# Altium footprint library mcu_PcbLib1.PcbLib: 10 footprints
Each footprint in its own frame and in the unit in brackets; x right, y up, seen from the top. Pads: shape width x height; smd on the part's side, far side on the other; paste and mask are expansions set on the pad; w line width, h text height; cw(c..) or ccw(c..) is an arc to the next point about the centre after c.
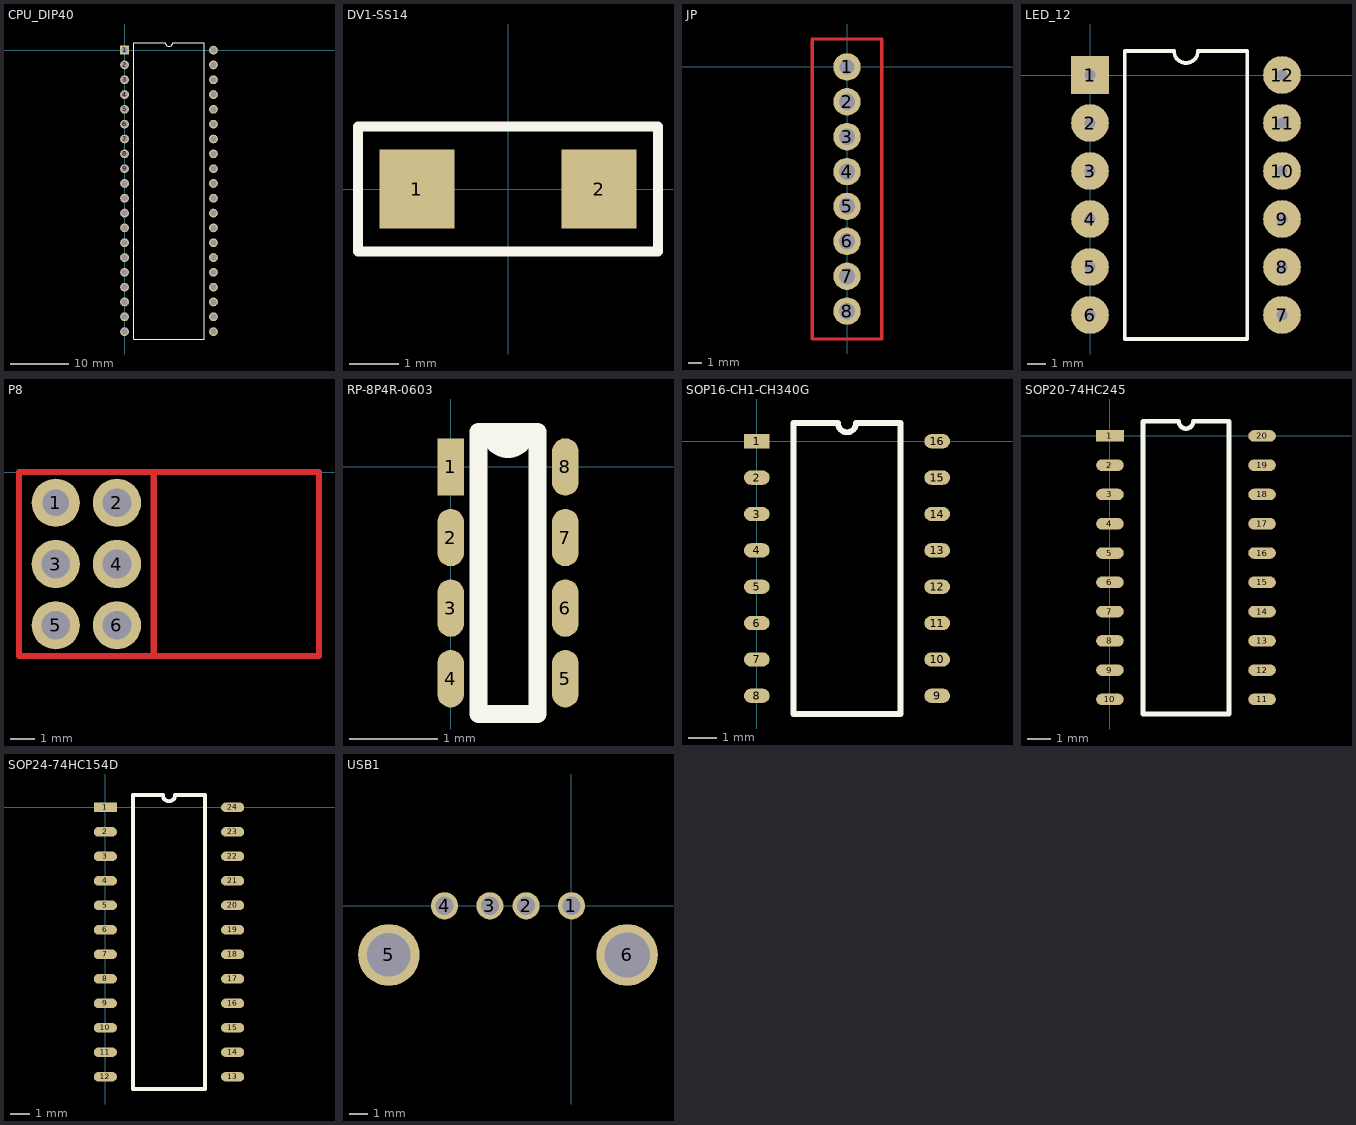
[diagram p0: the footprints below, top view; thin cyan lines are the x and y axes]

## CPU_DIP40 [mm]
pads (40):
  rect 1.5x1.5 hole 1: 1(0,0)
  round 1.5 hole 1: 2(0,-2.54) 3(0,-5.08) 4(0,-7.62) 5(0,-10.16) 6(0,-12.7) 7(0,-15.24) 8(0,-17.78) 9(0,-20.32) 10(0,-22.86) 11(0,-25.4) 12(0,-27.94) 13(0,-30.48) 14(0,-33.02) 15(0,-35.56) 16(0,-38.1) 17(0,-40.64) 18(0,-43.18) 19(0,-45.72) 20(0,-48.26) 21(15.24,-48.26) 22(15.24,-45.72) 23(15.24,-43.18) 24(15.24,-40.64) 25(15.24,-38.1) 26(15.24,-35.56) 27(15.24,-33.02) 28(15.24,-30.48) 29(15.24,-27.94) 30(15.24,-25.4) 31(15.24,-22.86) 32(15.24,-20.32) 33(15.24,-17.78) 34(15.24,-15.24) 35(15.24,-12.7) 36(15.24,-10.16) 37(15.24,-7.62) 38(15.24,-5.08) 39(15.24,-2.54) 40(15.24,0)
Top Overlay:
  lines w0.2: 1.585,-49.53 13.655,-49.53 13.655,1.27 8.255,1.27 cw(c7.62,1.27) 6.985,1.27 1.585,1.27 1.585,-49.53

## DV1-SS14 [mm]
pads (2):
  rect 1.52x1.6 smd: 1(-1.85,0) 2(1.85,0)
Top Overlay:
  lines w0.2: -3.048,-1.27 3.048,-1.27 3.048,1.27 -3.048,1.27 -3.048,0 -3.048,-1.27

## JP [mm]
pads (8):
  round 2 hole 1.1 square: 1(0,0)
  round 2 hole 1.2: 2(0,-2.54) 3(0,-5.08) 4(0,-7.62) 5(0,-10.16) 6(0,-12.7) 7(0,-15.24) 8(0,-17.78)
Top Layer:
  lines w0.254: -2.54,-19.812 2.54,-19.812 2.54,-19.558 2.54,2.032 -2.54,2.032 -2.54,-19.812

## LED_12 [mm]
pads (12):
  rect 2x2 hole 0.6: 1(0,0)
  round 2 hole 0.6: 2(0,-2.54) 3(0,-5.08) 4(0,-7.62) 5(0,-10.16) 6(0,-12.7) 7(10.16,-12.7) 8(10.16,-10.16) 9(10.16,-7.62) 10(10.16,-5.08) 11(10.16,-2.54) 12(10.16,0)
Top Overlay:
  lines w0.2: 1.835,-13.97 1.835,1.27 4.445,1.27 ccw(c5.08,1.27) 5.715,1.27 8.325,1.27 8.325,-13.97 1.835,-13.97

## P8 [mm]
pads (6):
  round 2 hole 1.1 square: 1(2.54,-1.27)
  round 2 hole 1.2: 2(5.08,-1.27) 3(2.54,-3.81) 4(5.08,-3.81) 5(2.54,-6.35) 6(5.08,-6.35)
Top Layer:
  lines w0.254: 6.604,-7.62 13.462,-7.62 13.462,0 6.604,0 ; 6.604,-7.62 1.016,-7.62 1.016,0 6.604,0 ; 6.604,-7.62 6.604,0
  text "3.3V" at 7.62,-7.112 h1.52
  text "GND" at 7.62,-4.572 h1.52
  text "+5V" at 7.62,-2.032 h1.52

## RP-8P4R-0603 [mm]
pads (8):
  rect 0.3x0.65 smd: 1(0,0)
  oval 0.3x0.65 smd: 2(0,-0.8) 3(0,-1.6) 4(0,-2.4) 5(1.3,-2.4) 6(1.3,-1.6) 7(1.3,-0.8) 8(1.3,0)
Top Overlay:
  lines w0.2: 0.315,-2.8 0.985,-2.8 0.985,0.4 0.45,0.4 ccw(c0.65,0.4) 0.85,0.4 0.315,0.4 0.315,-2.8

## SOP16-CH1-CH340G [mm]
pads (16):
  rect 0.9x0.5 smd: 1(0,0)
  oval 0.9x0.5 smd: 2(0,-1.27) 3(0,-2.54) 4(0,-3.81) 5(0,-5.08) 6(0,-6.35) 7(0,-7.62) 8(0,-8.89) 9(6.3,-8.89) 10(6.3,-7.62) 11(6.3,-6.35) 12(6.3,-5.08) 13(6.3,-3.81) 14(6.3,-2.54) 15(6.3,-1.27) 16(6.3,0)
Top Overlay:
  lines w0.2: 1.285,-9.525 5.015,-9.525 5.015,0.635 3.467,0.635 cw(c3.15,0.635) 2.832,0.635 1.285,0.635 1.285,-9.525

## SOP20-74HC245 [mm]
pads (20):
  rect 1.2x0.5 smd: 1(0,0)
  oval 1.2x0.5 smd: 2(0,-1.27) 3(0,-2.54) 4(0,-3.81) 5(0,-5.08) 6(0,-6.35) 7(0,-7.62) 8(0,-8.89) 9(0,-10.16) 10(0,-11.43) 11(6.6,-11.43) 12(6.6,-10.16) 13(6.6,-8.89) 14(6.6,-7.62) 15(6.6,-6.35) 16(6.6,-5.08) 17(6.6,-3.81) 18(6.6,-2.54) 19(6.6,-1.27) 20(6.6,0)
Top Overlay:
  lines w0.2: 1.435,-12.065 1.435,0.635 2.982,0.635 ccw(c3.3,0.635) 3.617,0.635 5.165,0.635 5.165,-12.065 1.435,-12.065

## SOP24-74HC154D [mm]
pads (24):
  rect 1.2x0.5 smd: 1(0,0)
  oval 1.2x0.5 smd: 2(0,-1.27) 3(0,-2.54) 4(0,-3.81) 5(0,-5.08) 6(0,-6.35) 7(0,-7.62) 8(0,-8.89) 9(0,-10.16) 10(0,-11.43) 11(0,-12.7) 12(0,-13.97) 13(6.6,-13.97) 14(6.6,-12.7) 15(6.6,-11.43) 16(6.6,-10.16) 17(6.6,-8.89) 18(6.6,-7.62) 19(6.6,-6.35) 20(6.6,-5.08) 21(6.6,-3.81) 22(6.6,-2.54) 23(6.6,-1.27) 24(6.6,0)
Top Overlay:
  lines w0.2: 1.435,-14.605 1.435,0.635 2.982,0.635 ccw(c3.3,0.635) 3.617,0.635 5.165,0.635 5.165,-14.605 1.435,-14.605

## USB1 [mm]
pads (6):
  round 1.5 hole 1: 1(0,0) 2(-2.5,0) 3(-4.5,0) 4(-7,0)
  round 3.4 hole 2.4: 5(-10.07,-2.71)
  round 3.4 hole 2.5: 6(3.07,-2.71)